# Altium schematic symbol library Capacitor_Ceramic.SchLib: 6 symbols
Pins are listed as number, name and electrical type; pins without a type are passive.

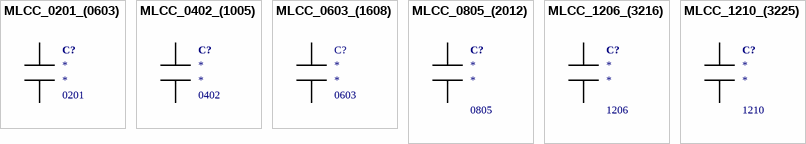
[diagram p0: symbols MLCC_0201_(0603) to MLCC_1210_(3225)]

## MLCC_0201_(0603)
designator C?  Package: 0201
MLCC_0201_(0603); Manufacturer 1: *; Manufacturer Part Number 1: *; Supplier 1: *; Supplier Part Number 1: *; Voltage: *; Capacitance: *
footprint MLCC_0201_(0603)
pins: 1, 2

## MLCC_0402_(1005)
designator C?  Package: 0402
MLCC_0402_(1005); Manufacturer 1: *; Manufacturer Part Number 1: *; Supplier 1: *; Supplier Part Number 1: *; Voltage: *; Capacitance: *
footprint MLCC_0402_(1005)
pins: 1, 2

## MLCC_0603_(1608)
designator C?  Package: 0603
MLCC_0603_(1608); Manufacturer 1: *; Manufacturer Part Number 1: *; Supplier 1: *; Supplier Part Number 1: *; Voltage: *; Capacitance: *
footprint MLCC_0603_(1608)
pins: 1, 2

## MLCC_0805_(2012)
designator C?  Package: 0805
MLCC_0805_(2012); Manufacturer 1: *; Manufacturer Part Number 1: *; Supplier 1: *; Supplier Part Number 1: *; Voltage: *; Capacitance: *
footprint MLCC_0805_(2012)
pins: 1, 2

## MLCC_1206_(3216)
designator C?  Package: 1206
MLCC_1206_(3216); Manufacturer 1: *; Manufacturer Part Number 1: *; Supplier 1: *; Supplier Part Number 1: *; Voltage: *; Capacitance: *
footprint MLCC_1206_(3216)
pins: 1, 2

## MLCC_1210_(3225)
designator C?  Package: 1210
MLCC_1210_(3225); Manufacturer 1: *; Manufacturer Part Number 1: *; Supplier 1: *; Supplier Part Number 1: *; Voltage: *; Capacitance: *
footprint MLCC_1210_(3225)
pins: 1, 2